# Altium schematic symbol library GL5516.SchLib: 1 symbol
Pins are listed as number, name and electrical type; pins without a type are passive.

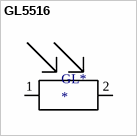
[diagram p0: symbol GL5516]

## GL5516
designator GL*
footprint GL5516
pins: 1, 2